# Altium integrated library SSW-110-01-XXX-S.IntLib: 1 symbol
Pins are listed as number, name and electrical type; pins without a type are passive.

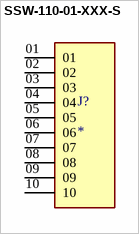
[diagram p0: symbol SSW-110-01-XXX-S]

## SSW-110-01-XXX-S
designator J?
SSW - Samtec 2.54mm Single Row Straight Socket Strip 8.5 Profile - Fast Stock; MP: SSW-110-01-F-S; SnapEDA_Link: https://www.snapeda.com/parts/SSW-110-01-F-S/Samtec+Inc./view-part/?ref=snap; Package: None; Value: *; MF: Samtec; Check_prices: https://www.snapeda.com/parts/SSW-110-01-F-S/Samtec+Inc./view-part/?ref=eda
footprint SAMTEC_SSW-110-01-XXX-S
pins: 01, 02, 03, 04, 05, 06, 07, 08, 09, 10